# Altium footprint library Connectors.PcbLib: 222 footprints (part 1 of 14)
Each footprint in its own frame and in the unit in brackets; x right, y up, seen from the top. Pads: shape width x height; smd on the part's side, far side on the other; paste and mask are expansions set on the pad; w line width, h text height; cw(c..) or ccw(c..) is an arc to the next point about the centre after c.
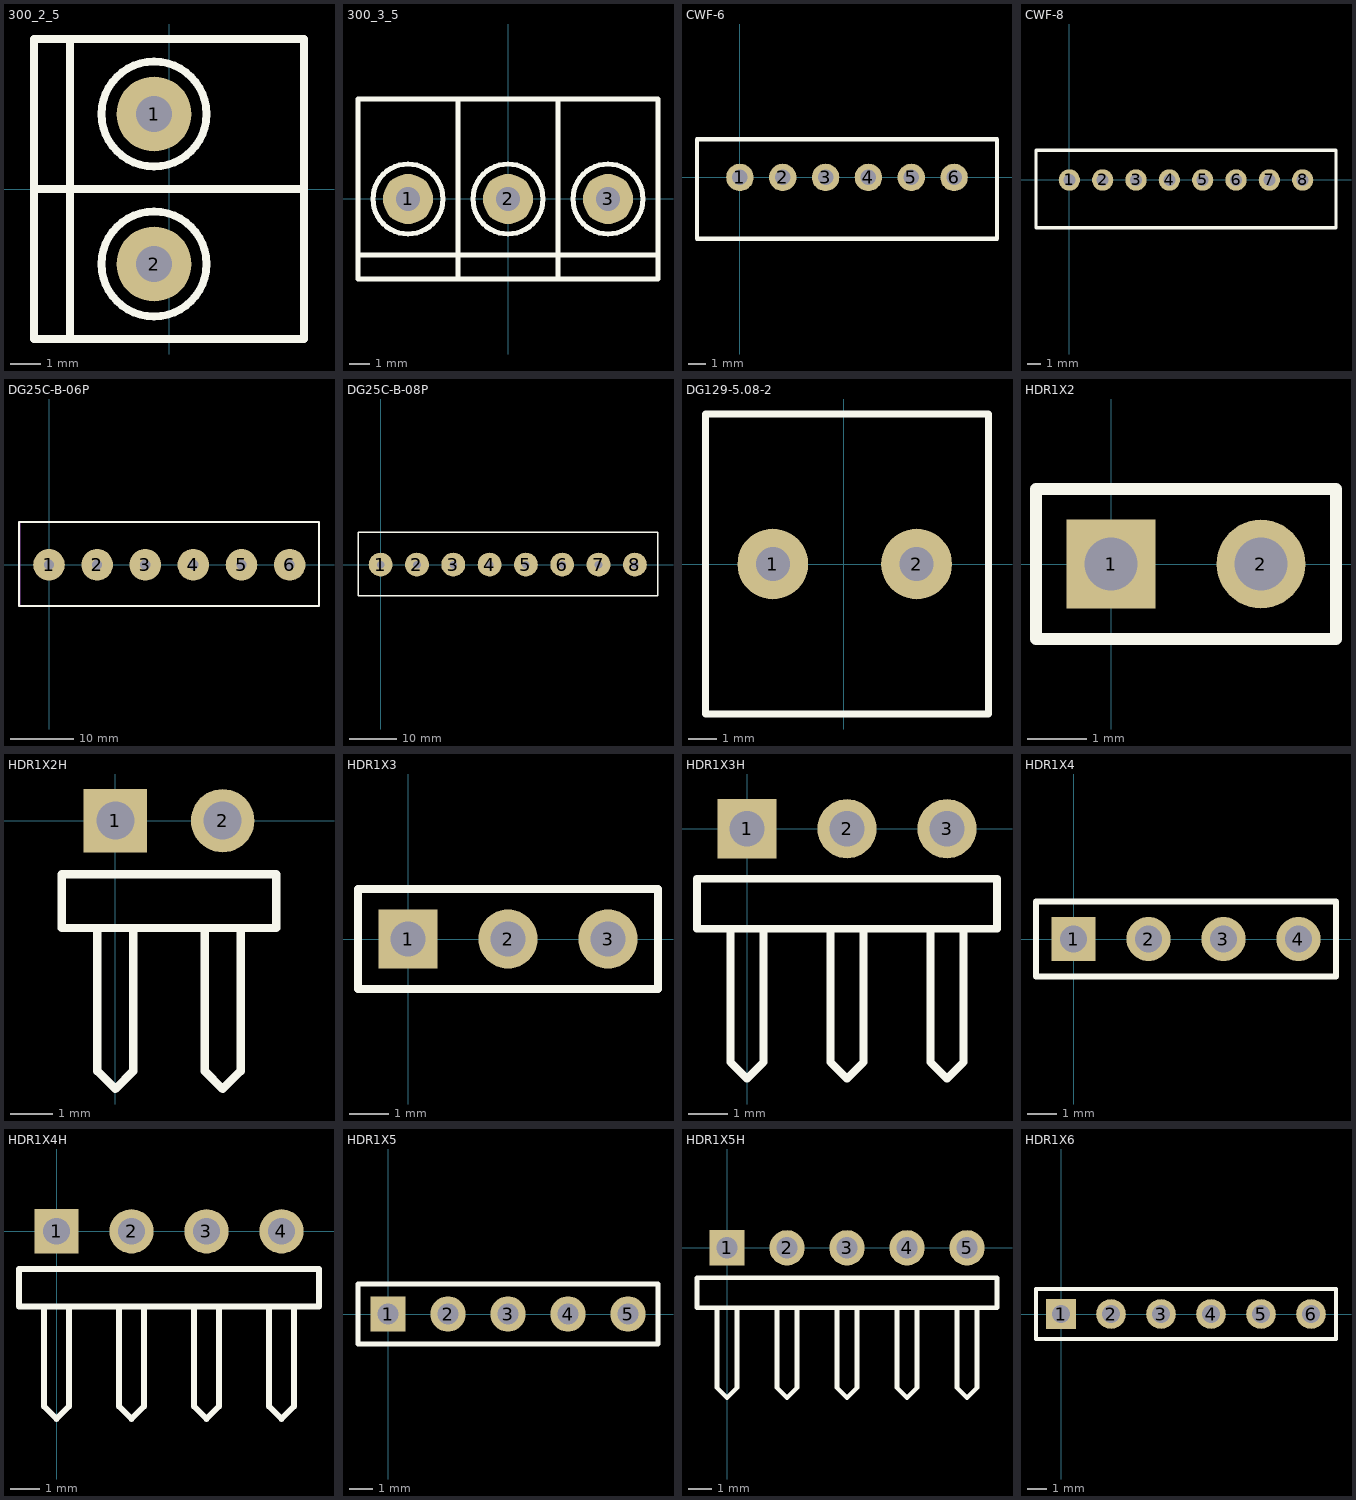
[diagram p0: the footprints below, top view; thin cyan lines are the x and y axes]

## 300_2_5 [mm]
pads (2):
  round 2.5 hole 1.2: 1(-0.5,2.5) 2(-0.5,-2.5)
Top Overlay:
  circle w0.254: c-0.5,2.5 r1.75
  circle w0.254: c-0.5,-2.5 r1.75
  lines w0.254: -4.5,0 4.5,0 ; -3.3,-5 -3.3,5 ; -4.5,-5 4.5,-5 4.5,5 -4.5,5 -4.5,-5
3D body "User Library-DG129-5_0-2.STEP": height 19.05, standoff -3.9, extent -5.275,-5.25 4.725,5.25

## 300_3_5 [mm]
pads (3):
  round 2.5 hole 1.2: 1(-5,0) 2(0,0) 3(5,0)
Top Overlay:
  circle w0.254: c0,0 r1.75
  circle w0.254: c5,0 r1.75
  circle w0.254: c-5,0 r1.75
  lines w0.254: -7.494,-2.8 -2.5,-2.8 7.5,-2.8 ; 2.5,-4 2.5,5 ; -2.5,-4 -2.5,5 ; -2.5,-4 7.5,-4 7.5,5 -2.5,5 ; -2.5,-4 -2.5,5 ; -2.5,-4 -7.5,-4 -7.5,5 -2.5,5

## CWF-6 [mm]
pads (6):
  round 1.6 hole 0.9: 1(0,0) 2(2.5,0) 3(5,0) 4(7.5,0) 5(10,0) 6(12.5,0)
Top Overlay:
  lines w0.254: -2.5,-3.575 15,-3.575 15,2.225 -2.5,2.225 -2.5,-3.575
3D body "User Library-CWF-6.STEP": height 7, standoff -3.5, extent -2.475,-3.575 15.025,2.175

## CWF-8 [mm]
pads (8):
  round 1.6 hole 0.9: 1(0,0) 2(2.5,0) 3(5,0) 4(7.5,0) 5(10,0) 6(12.5,0) 7(15,0) 8(17.5,0)
Top Overlay:
  lines w0.254: -2.5,-3.575 20,-3.575 20,2.225 -2.5,2.225 -2.5,-3.575
3D body "User Library-CWF-8.STEP": height 7, standoff -3.5, extent -2.475,-3.575 20.025,2.175

## DG25C-B-06P [mm]
pads (6):
  round 5 hole 1.6: 1(0,0) 2(7.62,0) 3(15.24,0) 4(22.86,0) 5(30.48,0) 6(38.1,0)
Top Overlay:
  lines w0.3: -4.75,-6.5 -4.75,6.75 42.75,6.75 42.75,-6.5 -4.75,-6.5
Mechanical 1:
  lines w0.1: 42.695,6.75 42.695,-6.484 42.695,-6.484 -4.57,-6.484 -4.57,6.75 42.695,6.75 ; 42.695,6.75 42.695,6.75
3D body "User Library-DG25C-1.STEP": height 14.8, standoff -4.79, extent -4.57,-6.484 12.17,6.75
3D body "User Library-DG25C-1.STEP": height 14.8, standoff -4.79, extent 10.73,-6.484 27.47,6.75
3D body "User Library-DG25C-1.STEP": height 14.8, standoff -4.79, extent 25.955,-6.484 42.695,6.75

## DG25C-B-08P [mm]
pads (8):
  round 5 hole 1.6: 1(0,0) 2(7.62,0) 3(15.24,0) 4(22.86,0) 5(30.48,0) 6(38.1,0) 7(45.72,0) 8(53.34,0)
Top Overlay:
  lines w0.3: -4.75,-6.5 58.2,-6.5 58.2,6.75 -4.75,6.75 -4.75,-6.5
Mechanical 1:
  lines w0.1: -4.57,-6.484 42.695,-6.484 ; -4.57,6.75 42.695,6.75
3D body "User Library-DG25C-1.STEP": height 14.8, standoff -4.79, extent 25.955,-6.484 42.695,6.75
3D body "User Library-DG25C-1.STEP": height 14.8, standoff -4.79, extent 10.73,-6.484 27.47,6.75
3D body "User Library-DG25C-1.STEP": height 14.8, standoff -4.79, extent -4.57,-6.484 12.17,6.75
3D body "User Library-DG25C-1.STEP": height 14.8, standoff -4.79, extent 41.26,-6.634 58,6.6

## DG129-5.08-2 [mm]
pads (2):
  round 2.5 hole 1.2: 1(-2.5,0) 2(2.58,0)
Top Overlay:
  lines w0.254: -4.88,-5.3 -4.88,5.3 5.12,5.3 5.12,-5.3 -4.88,-5.3
3D body "User Library-DG129-5_0-2.STEP": height 19.05, standoff -3.9, extent -5.15,-4.975 5.35,5.025

## HDR1X2 [mm] "Connector; Header; 2 Position"
pads (2):
  rect 1.5x1.5 hole 0.9: 1(0,0)
  round 1.5 hole 0.9: 2(2.54,0)
Top Overlay:
  lines w0.2: -1.27,-1.27 -1.27,1.27 3.81,1.27 3.81,-1.27 -1.27,-1.27
3D body "PLS-2-1.step": height 9.44, standoff -2, extent -1.19,-1.275 3.89,1.265

## HDR1X2H [mm] "Connector; Header; 2 Position; Right Angle"
pads (2):
  rect 1.5x1.5 hole 0.9: 1(0,0)
  round 1.5 hole 0.9: 2(2.54,0)
Top Overlay:
  lines w0.2: -0.423,-2.54 -0.423,-5.927 0,-6.35 0.423,-5.927 0.423,-2.54 ; 2.117,-2.54 2.117,-5.927 2.54,-6.35 2.963,-5.927 2.963,-2.54 ; -1.27,-2.54 3.81,-2.54 3.81,-1.27 -1.27,-1.27 -1.27,-2.54

## HDR1X3 [mm] "Connector; Header; 3 Position"
pads (3):
  rect 1.5x1.5 hole 0.9: 1(0,0)
  round 1.5 hole 0.9: 2(2.54,0) 3(5.08,0)
Top Overlay:
  lines w0.2: -1.27,-1.27 -1.27,1.27 6.35,1.27 6.35,-1.27 -1.27,-1.27

## HDR1X3H [mm] "Connector; Header; 3 Position; Right Angle"
pads (3):
  rect 1.5x1.5 hole 0.9: 1(0,0)
  round 1.5 hole 0.9: 2(2.54,0) 3(5.08,0)
Top Overlay:
  lines w0.2: -0.423,-2.54 -0.423,-5.927 0,-6.35 0.423,-5.927 0.423,-2.54 ; 2.117,-2.54 2.117,-5.927 2.54,-6.35 2.963,-5.927 2.963,-2.54 ; 4.657,-2.54 4.657,-5.927 5.08,-6.35 5.503,-5.927 5.503,-2.54 ; -1.27,-2.54 -1.27,-1.27 6.35,-1.27 6.35,-2.54 -1.27,-2.54

## HDR1X4 [mm] "Connector; Header; 4 Position"
pads (4):
  rect 1.5x1.5 hole 0.9: 1(0,0)
  round 1.5 hole 0.9: 2(2.54,0) 3(5.08,0) 4(7.62,0)
Top Overlay:
  lines w0.2: -1.27,-1.27 -1.27,1.27 8.89,1.27 8.89,-1.27 -1.27,-1.27
3D body "PLS-2-1.step": height 9.44, standoff -2, extent 3.835,-1.295 8.915,1.245
3D body "PLS-2-1.step": height 9.44, standoff -2, extent -1.315,-1.27 3.765,1.27

## HDR1X4H [mm] "Connector; Header; 4 Position; Right Angle"
pads (4):
  rect 1.5x1.5 hole 0.9: 1(0,0)
  round 1.5 hole 0.9: 2(2.54,0) 3(5.08,0) 4(7.62,0)
Top Overlay:
  lines w0.2: -0.423,-2.54 -0.423,-5.927 0,-6.35 0.423,-5.927 0.423,-2.54 ; 2.117,-2.54 2.117,-5.927 2.54,-6.35 2.963,-5.927 2.963,-2.54 ; 4.657,-2.54 4.657,-5.927 5.08,-6.35 5.503,-5.927 5.503,-2.54 ; 7.197,-2.54 7.197,-5.927 7.62,-6.35 8.043,-5.927 8.043,-2.54 ; -1.27,-2.54 8.89,-2.54 8.89,-1.27 -1.27,-1.27 -1.27,-2.54

## HDR1X5 [mm] "Connector; Header; 5 Position"
pads (5):
  rect 1.5x1.5 hole 0.9: 1(0,0)
  round 1.5 hole 0.9: 2(2.54,0) 3(5.08,0) 4(7.62,0) 5(10.16,0)
Top Overlay:
  lines w0.2: -1.27,-1.27 -1.27,1.27 11.43,1.27 11.43,-1.27 -1.27,-1.27

## HDR1X5H [mm] "Connector; Header; 5 Position; Right Angle"
pads (5):
  rect 1.5x1.5 hole 0.9: 1(0,0)
  round 1.5 hole 0.9: 2(2.54,0) 3(5.08,0) 4(7.62,0) 5(10.16,0)
Top Overlay:
  lines w0.2: -0.423,-2.54 -0.423,-5.927 0,-6.35 0.423,-5.927 0.423,-2.54 ; 2.117,-2.54 2.117,-5.927 2.54,-6.35 2.963,-5.927 2.963,-2.54 ; 4.657,-2.54 4.657,-5.927 5.08,-6.35 5.503,-5.927 5.503,-2.54 ; 7.197,-2.54 7.197,-5.927 7.62,-6.35 8.043,-5.927 8.043,-2.54 ; 9.737,-2.54 9.737,-5.927 10.16,-6.35 10.583,-5.927 10.583,-2.54 ; -1.27,-2.54 11.43,-2.54 11.43,-1.27 -1.27,-1.27 -1.27,-2.54

## HDR1X6 [mm] "Connector; Header; 6 Position"
pads (6):
  rect 1.5x1.5 hole 0.9: 1(0,0)
  round 1.5 hole 0.9: 2(2.54,0) 3(5.08,0) 4(7.62,0) 5(10.16,0) 6(12.7,0)
Top Overlay:
  lines w0.2: -1.27,-1.27 13.97,-1.27 13.97,1.27 -1.27,1.27 -1.27,-1.27